# EAGLE library part 20POS0.05INCH (library scono)
https://www.digikey.com/product-detail/en/samtec-inc/FFSD-10-D-03.00-01-N/SAM8900-ND/2651117 https://www.digikey.com/product-detail/en/amphenol-fci/20021121-00020C4LF/609-3698-1-ND/2209158
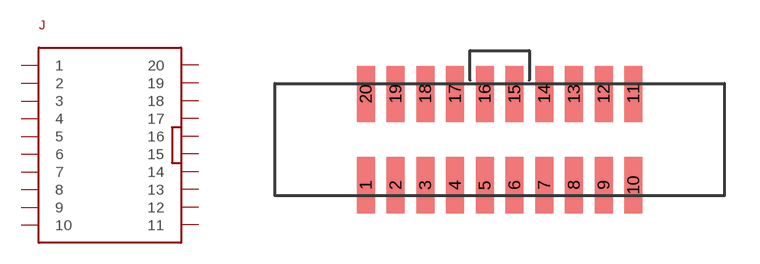
[diagram p36: symbol with the pads of 20POS0.05INCH; footprint 20POS0.05INCH]

Designator prefix J

## 20POS0.05INCH  [20POS0.05INCH]
1  1
2  2
3  3
4  4
5  5
6  6
7  7
8  8
9  9
10  10
11  11
12  12
13  13
14  14
15  15
16  16
17  17
18  18
19  19
20  20

## Footprint 20POS0.05INCH (pad centres in mm)
smd 0.76 x 2.4: 1 -5.715,-1.95; 2 -4.445,-1.95; 3 -3.175,-1.95; 4 -1.905,-1.95; 5 -0.635,-1.95; 6 0.635,-1.95; 7 1.905,-1.95; 8 3.175,-1.95; 9 4.445,-1.95; 10 5.715,-1.95; 11 5.715,1.95; 12 4.445,1.95; 13 3.175,1.95; 14 1.905,1.95; 15 0.635,1.95; 16 -0.635,1.95; 17 -1.905,1.95; 18 -3.175,1.95; 19 -4.445,1.95; 20 -5.715,1.95